# EAGLE library part PINHEAD10SMD (library HeRo)
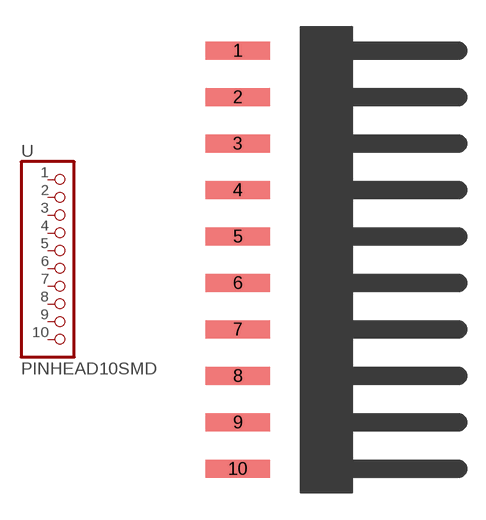
[diagram p1: symbol with the pads of PINHD10SMD; footprint PINHD10SMD]

Designator prefix -

## PINHEAD10SMD  [PINHD10SMD]
1  1  pas
2  2  pas
3  3  pas
4  4  pas
5  5  pas
6  6  pas
7  7  pas
8  8  pas
9  9  pas
10  10  pas

## Footprint PINHD10SMD (pad centres in mm)
smd 3.5 x 1: 1 -5.08,11.43; 2 -5.08,8.89; 3 -5.08,6.35; 4 -5.08,3.81; 5 -5.08,1.27; 6 -5.08,-1.27; 7 -5.08,-3.81; 8 -5.08,-6.35; 9 -5.08,-8.89; 10 -5.08,-11.43